# EAGLE library part ESP8266 (library MCU_Print_V2)
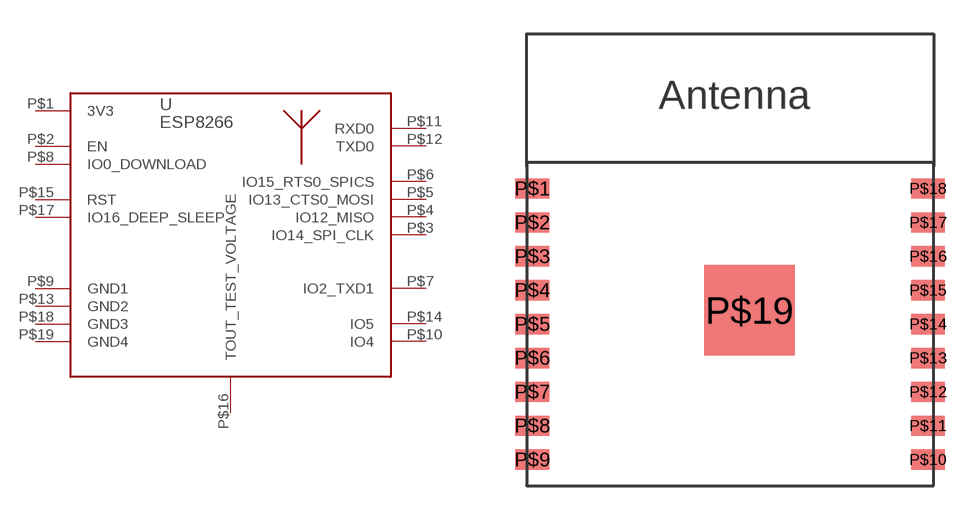
[diagram p9: symbol with the pads of ESP8266; footprint ESP8266]

Designator prefix -

## ESP8266 (FREQUENCY_BAND: 2.4GHz; MANUFACTOR: Espressif System; MOUSER: 356-ESPWROOM-02D; POWER: 170mA; PRICE: 2.93CHF; SUPPLY_VOLTAGE: 3.3V)  [ESP8266]
P$1  3V3
P$2  EN
P$3  IO14_SPI_CLK
P$4  IO12_MISO
P$5  IO13_CTS0_MOSI
P$6  IO15_RTS0_SPICS
P$7  IO2_TXD1
P$8  IO0_DOWNLOAD
P$9  GND1
P$10  IO4
P$11  RXD0
P$12  TXD0
P$13  GND2
P$14  IO5
P$15  RST
P$16  TOUT_TEST_VOLTAGE
P$17  IO16_DEEP_SLEEP
P$18  GND3
P$19  GND4

## Footprint ESP8266 (pad centres in mm)
smd 1.5 x 0.9: P$1 -8.75,6; P$2 -8.75,4.5; P$3 -8.75,3; P$4 -8.75,1.5; P$5 -8.75,0; P$6 -8.75,-1.5; P$7 -8.75,-3; P$8 -8.75,-4.5; P$9 -8.75,-6; P$10 8.75,-6; P$11 8.75,-4.5; P$12 8.75,-3; P$13 8.75,-1.5; P$14 8.75,0; P$15 8.75,1.5; P$16 8.75,3; P$17 8.75,4.5; P$18 8.75,6
smd 4 x 4: P$19 0.85,0.61